# Altium schematic symbol library Ceramic_Capacitors_SMD.SchLib: 2 symbols
Pins are listed as number, name and electrical type; pins without a type are passive.

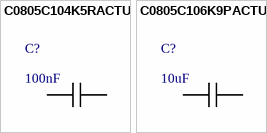
[diagram p0: symbols C0805C104K5RACTU to C0805C106K9PACTU]

## C0805C104K5RACTU
designator C?, comment 100nF
Cap Ceramic 0.1uF 50V X7R 10% SMD 2.0 x 1.2 mm 125 C Paper T/R; Manufacturer 1: KEMET; Manufacturer Part Number 1: C0805C104K5RACTU; Category 1: Ceramic Capacitors; Voltage: 500V; Supplier 1: Digi-Key; Supplier Part Number 1: 399-C0805C104K5RAC7800CT-ND; RoHS 1: Yes; Description 1: Cap Ceramic 0.1uF 50V X7R 10% SMD 2.0 x 1.2 mm 125 C Paper T/R; Stock 1: 2232939; Pricing 1: 1=0.14000, 10=0.09700, 50=0.05480, 100=0.04540, 500=0.03182, 1000=0.02634 (USD); Mount: Surface Mount,PCB; Case/Package: 0805; Number of Pins: 2; Case Code (Imperial): 0805; Case Code (Metric): 2012; Contact Plating: Tin,Matte; Dielectric Material: Ceramic; Min Operating Temperature: -55°C; Max Operating Temperature: 125°C; Capacitance: 100nF; Tolerance: 10%; Dielectric: X7R; Package Quantity: 4000; Voltage Rating: 50V; Packaging: Tape and Reel; Voltage Rating (DC): 50V; Termination: SMD/SMT; Series: SMD Comm X7R; Construction: Flat; Length: 2mm; Width: 1.2mm; Height: 0.9mm; Depth: 1.25mm; Lead Pitch: 0.75mm; Thickness: 0.035inch; Radiation Hardening: No; RoHS Compliant: Yes; Reach SVHC Compliant: Yes; ComponentLink1URL: https://datasheet.ciiva.com/32431/slceramic-chip-condensers-e-32431755.pdf?src-supplier=Distrelec; ComponentLink1Description: https://datasheet.ciiva.com/32431/slceramic-chip-condensers-e-32431755.pdf?src-supplier=Distrelec; ComponentLink2URL: https://datasheet.ciiva.com/28682/1851736-28682232.pdf?src-supplier=Element14; ComponentLink2Description: https://datasheet.ciiva.com/28682/1851736-28682232.pdf?src-supplier=Element14; ComponentLink3URL: https://datasheet.ciiva.com/18410/70095383-18410815.pdf?src-supplier=Allied+Electronics; ComponentLink3Description: https://datasheet.ciiva.com/18410/70095383-18410815.pdf?src-supplier=Allied+Electronics; ComponentLink4URL: https://datasheet.ciiva.com/14589/70095383-14589048.pdf?src-supplier=Allied+Electronics; ComponentLink4Description: https://datasheet.ciiva.com/14589/70095383-14589048.pdf?src-supplier=Allied+Electronics; Supplier 2: Digi-Key; Supplier Part Number 2: 399-C0805C104K5RAC7800DKR-ND; Manufacturer 2: KEMET; Manufacturer Part Number 2: C0805C104K5RACTU; RoHS 2: Yes; Description 2: Cap Ceramic 0.1uF 50V X7R 10% SMD 2.0 x 1.2 mm 125 C Paper T/R; Category 2: Ceramic Capacitors; Stock 2: 2232939; Pricing 2: 1=0.14000, 10=0.09700, 50=0.05480, 100=0.04540, 500=0.03182, 1000=0.02634 (USD); Supplier 3: Digi-Key; Supplier Part Number 3: 399-C0805C104K5RAC7800TR-ND; Manufacturer 3: KEMET; Manufacturer Part Number 3: C0805C104K5RACTU; RoHS 3: Yes; Description 3: Cap Ceramic 0.1uF 50V X7R 10% SMD 2.0 x 1.2 mm 125 C Paper T/R; Category 3: Ceramic Capacitors; Stock 3: 2207913; Pricing 3: 4000=0.02243, 8000=0.02087, 12000=0.01982, 40000=0.01878 (USD); Supplier 4: Mouser; Supplier Part Number 4: 80-C0805C104K5R; Manufacturer 4: KEMET; Manufacturer Part Number 4: C0805C104K5RACTU; RoHS 4: Yes; Description 4: Cap Ceramic 0.1uF 50V X7R 10% SMD 2.0 x 1.2 mm 125 C Paper T/R; Category 4: Ceramic Capacitors; Stock 4: 2124921; Pricing 4: 1=0.16000, 10=0.11300, 50=0.11300, 100=0.05900, 500=0.04900, 1000=0.04600, 4000=0.03600, 8000=0.03500, 10000=0.03500, 12000=0.03400 (USD); Supplier 5: Mouser; Supplier Part Number 5: 80-C0805C104K5R7800; Manufacturer 5: KEMET; Manufacturer Part Number 5: C0805C104K5RACTU; RoHS 5: Yes; Description 5: Cap Ceramic 0.1uF 50V X7R 10% SMD 2.0 x 1.2 mm 125 C Paper T/R; Category 5: Ceramic Capacitors; Stock 5: 184000; Pricing 5: 4000=0.02100, 10000=0.02100 (USD)
footprint C-0805-DN-IPC-A
footprint C-0805-DN-IPC-B
footprint C-0805-DN-IPC-C
pins: 1, 2

## C0805C106K9PACTU
designator C?, comment 10uF
Ceramic Capacitor, 10UF, 6.3V, X5R, 10%, 0805, Full Reel; Manufacturer 1: KEMET; Manufacturer Part Number 1: C0805C106K9PACTU; Category 1: Ceramic Capacitors; Dissipation Factor: 5%; Supplier 1: Digi-Key; Supplier Part Number 1: 399-C0805C106K9PAC7800CT-ND; RoHS 1: Yes; Description 1: Ceramic Capacitor, 10UF, 6.3V, X5R, 10%, 0805, Full Reel; Stock 1: 1425968; Pricing 1: 1=0.16000, 10=0.11300, 50=0.06420, 100=0.05320, 500=0.03728, 1000=0.03086 (USD); Mount: Surface Mount; Case/Package: 0805; Number of Pins: 2; Case Code (Imperial): 0805; Case Code (Metric): 2012; Dielectric Material: Ceramic; Contact Material: Tin; Min Operating Temperature: -55°C; Max Operating Temperature: 85°C; Capacitance: 10uF; Tolerance: 10%; Packaging: Tape and Reel; Package Quantity: 3000; Voltage Rating: 6.3V; Voltage Rating (DC): 6.3V; Dielectric: X5R; Termination: SMD/SMT; Voltage: 6.3V; Series: SMD Comm X5R; Construction: Flat; Length: 2mm; Width: 1.2mm; Height: 1.25mm; Depth: 1.25mm; Lead Pitch: 0.75mm; Thickness: 0.055inch; Radiation Hardening: No; Lead Free: Lead Free; Reach SVHC Compliant: Yes; RoHS Compliant: Yes; ComponentLink1URL: https://datasheet.ciiva.com/7842/kem-c1006-x5r-smd-7842200.pdf?src-supplier=Element14; ComponentLink1Description: https://datasheet.ciiva.com/7842/kem-c1006-x5r-smd-7842200.pdf?src-supplier=Element14; ComponentLink2URL: https://datasheet.ciiva.com/7842/kem-c1006-x5r-smd-7842201.pdf?src-supplier=Element14; ComponentLink2Description: https://datasheet.ciiva.com/7842/kem-c1006-x5r-smd-7842201.pdf?src-supplier=Element14; ComponentLink3URL: https://datasheet.ciiva.com/7842/40889-7842553.pdf?src-supplier=Element14; ComponentLink3Description: https://datasheet.ciiva.com/7842/40889-7842553.pdf?src-supplier=Element14; ComponentLink4URL: https://datasheet.ciiva.com/7842/40889-7842554.pdf?src-supplier=Element14; ComponentLink4Description: https://datasheet.ciiva.com/7842/40889-7842554.pdf?src-supplier=Element14; ComponentLink5URL: https://datasheet.ciiva.com/18193/getdatasheetpartid-320652-18193500.pdf?src-supplier=Verical; ComponentLink5Description: https://datasheet.ciiva.com/18193/getdatasheetpartid-320652-18193500.pdf?src-supplier=Verical; Supplier 2: Digi-Key; Supplier Part Number 2: 399-C0805C106K9PAC7800DKR-ND; Manufacturer 2: KEMET; Manufacturer Part Number 2: C0805C106K9PACTU; RoHS 2: Yes; Description 2: Ceramic Capacitor, 10UF, 6.3V, X5R, 10%, 0805, Full Reel; Category 2: Ceramic Capacitors; Stock 2: 1425968; Pricing 2: 1=0.16000, 10=0.11300, 50=0.06420, 100=0.05320, 500=0.03728, 1000=0.03086 (USD); Supplier 3: Digi-Key; Supplier Part Number 3: 399-C0805C106K9PAC7800TR-ND; Manufacturer 3: KEMET; Manufacturer Part Number 3: C0805C106K9PACTU; RoHS 3: Yes; Description 3: Ceramic Capacitor, 10UF, 6.3V, X5R, 10%, 0805, Full Reel; Category 3: Ceramic Capacitors; Stock 3: 1425000; Pricing 3: 3000=0.02872, 6000=0.02628, 9000=0.02444, 15000=0.02322, 30000=0.02200, 75000=0.02016 (USD); Supplier 4: Mouser; Supplier Part Number 4: 80-C0805C106K9P; Manufacturer 4: KEMET; Manufacturer Part Number 4: C0805C106K9PACTU; RoHS 4: Yes; Description 4: Ceramic Capacitor, 10UF, 6.3V, X5R, 10%, 0805, Full Reel; Category 4: Ceramic Capacitors; Stock 4: 582330; Pricing 4: 1=0.18000, 10=0.11700, 50=0.11700, 100=0.05800, 500=0.04100, 1000=0.04000, 3000=0.03100, 10000=0.03100 (USD)
footprint C-0805-DN-IPC-A
footprint C-0805-DN-IPC-B
footprint C-0805-DN-IPC-C
pins: 1, 2